# Altium footprint library PADog.PcbLib: 5 footprints
Each footprint in its own frame and in the unit in brackets; x right, y up, seen from the top. Pads: shape width x height; smd on the part's side, far side on the other; paste and mask are expansions set on the pad; w line width, h text height; cw(c..) or ccw(c..) is an arc to the next point about the centre after c.
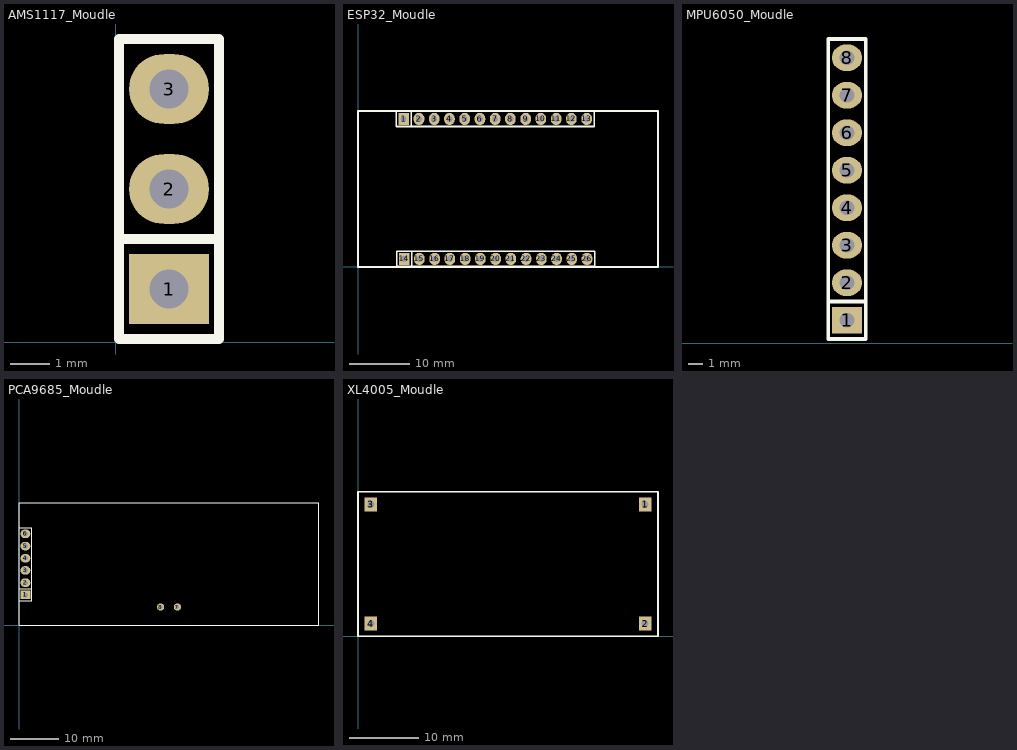
[diagram p0: the footprints below, top view; thin cyan lines are the x and y axes]

## AMS1117_Moudle [mil]
pads (3):
  rect 80x70 hole 39.37: 1(53.11,53.43)
  oval 80x70 hole 39.37: 2(53.11,153.43) 3(53.11,253.43)
Top Overlay:
  lines w10: 3.11,103.43 103.11,103.43 ; 3.11,3.43 3.11,303.43 103.11,303.43 103.11,3.43 3.11,3.43

## ESP32_Moudle [mil]
pads (26):
  rect 70x80 hole 39.37: 1(300.04,971.89) 14(302.83,53.46)
  oval 70x80 hole 39.37: 2(400.04,971.89) 3(500.04,971.89) 4(600.04,971.89) 5(700.04,971.89) 6(800.04,971.89) 7(900.04,971.89) 8(1000.04,971.89) 9(1100.04,971.89) 10(1200.04,971.89) 11(1300.04,971.89) 12(1400.04,971.89) 13(1500.04,971.89) 15(402.83,53.46) 16(502.83,53.46) 17(602.83,53.46) 18(702.83,53.46) 19(802.83,53.46) 20(902.83,53.46) 21(1002.83,53.46) 22(1102.83,53.46) 23(1202.83,53.46) 24(1302.83,53.46) 25(1402.83,53.46) 26(1502.83,53.46)
Top Overlay:
  lines w10: 350.04,921.89 350.04,1021.89 ; 352.83,3.46 352.83,103.46 ; 0,0 1968.5,0 1968.5,1023.62 0,1023.62 0,0 ; 250.04,921.89 1550.04,921.89 1550.04,1021.89 250.04,1021.89 250.04,921.89 ; 252.83,3.46 1552.83,3.46 1552.83,103.46 252.83,103.46 252.83,3.46

## MPU6050_Moudle [mil]
pads (8):
  rect 80x70 hole 39.37: 1(571.89,60.98)
  oval 80x70 hole 39.37: 2(571.89,160.98) 3(571.89,260.98) 4(571.89,360.98) 5(571.89,460.98) 6(571.89,560.98) 7(571.89,660.98) 8(571.89,760.98)
Top Overlay:
  lines w10: 521.89,110.98 621.89,110.98 ; 521.89,10.98 521.89,810.98 621.89,810.98 621.89,10.98 521.89,10.98

## PCA9685_Moudle [mil]
pads (8):
  rect 80x70 hole 39.37: 1(52.48,249.06)
  oval 80x70 hole 39.37: 2(52.48,349.06) 3(52.48,449.06) 4(52.48,549.06) 5(52.48,649.06) 6(52.48,749.06)
  round 60 hole 30: 7(1297.24,149.61) 8(1159.45,149.61)
Top Overlay:
  lines w10: 2.48,299.06 102.48,299.06 ; 0,0 2456.69,0 2456.69,1003.94 0,1003.94 0,0 ; 2.48,199.06 102.48,199.06 102.48,799.06 2.48,799.06 2.48,199.06

## XL4005_Moudle [mil]
pads (4):
  rect 70x80 hole 39.37: 1(1627.52,747.64) 2(1627.52,72.52) 3(72.52,747.64) 4(72.5,72.52)
Top Overlay:
  lines w10: 0,0 0,820 1700,820 1700,0 0,0